# Altium footprint library ARDUINO_NANO.PcbLib: 1 footprints
Each footprint in its own frame and in the unit in brackets; x right, y up, seen from the top. Pads: shape width x height; smd on the part's side, far side on the other; paste and mask are expansions set on the pad; w line width, h text height; cw(c..) or ccw(c..) is an arc to the next point about the centre after c.
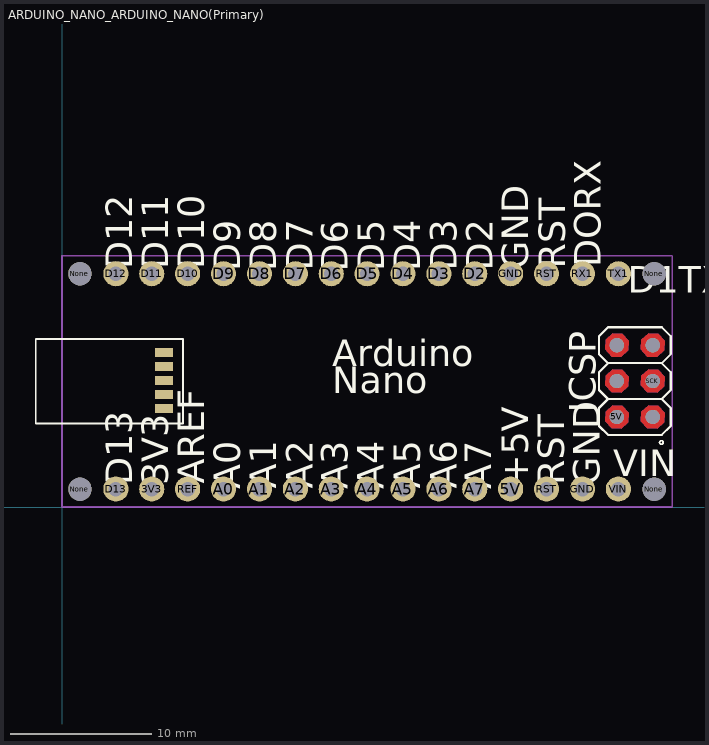
[diagram p0: the footprint, top view; thin cyan lines are the x and y axes]

## ARDUINO_NANO_ARDUINO_NANO(Primary) [mil]
pads (45):
  round 70 hole 40: 3V3(250,50) 5V(1250,50) A0(450,50) A1(550,50) A2(650,50) A3(750,50) A4(850,50) A5(950,50) A6(1050,50) A7(1150,50) D2(1150,650) D3(1050,650) D4(950,650) D5(850,650) D6(750,650) D7(650,650) D8(550,650) D9(450,650) D10(350,650) D11(250,650) D12(150,650) D13(150,50) GND(1250,650) GND(1450,50) REF(350,50) RST(1350,50) RST(1350,650) RX1(1450,650) TX1(1550,650) VIN(1550,50)
  round 40 hole 40: 5V(1546,251) GND_(1546,451) MISO(1646,251) MOSI(1546,351) RESET(1646,451) SCK(1646,351)
  round 65 hole 65 unplated: None(50,50) None(50,650) None(1650,50) None(1650,650)
  rect 50x25 smd: ""(284,274) ""(284,314) ""(284,352) ""(284,392) ""(284,431)
Top Layer:
  region: 1613.11,239.03 1631.21,219.28 1657.97,218.11 1677.72,236.21 1678.89,262.97 1660.79,282.72 1634.03,283.89 1614.28,265.79
  region: 1513.11,239.03 1531.21,219.28 1557.97,218.11 1577.72,236.21 1578.89,262.97 1560.79,282.72 1534.03,283.89 1514.28,265.79
  region: 1613.11,339.03 1631.21,319.28 1657.97,318.11 1677.72,336.21 1678.89,362.97 1660.79,382.72 1634.03,383.89 1614.28,365.79
  region: 1513.11,339.03 1531.21,319.28 1557.97,318.11 1577.72,336.21 1578.89,362.97 1560.79,382.72 1534.03,383.89 1514.28,365.79
  region: 1613.11,439.03 1631.21,419.28 1657.97,418.11 1677.72,436.21 1678.89,462.97 1660.79,482.72 1634.03,483.89 1614.28,465.79
  region: 1513.11,439.03 1531.21,419.28 1557.97,418.11 1577.72,436.21 1578.89,462.97 1560.79,482.72 1534.03,483.89 1514.28,465.79
Bottom Layer:
  region: 1613.11,239.03 1631.21,219.28 1657.97,218.11 1677.72,236.21 1678.89,262.97 1660.79,282.72 1634.03,283.89 1614.28,265.79
  region: 1513.11,239.03 1531.21,219.28 1557.97,218.11 1577.72,236.21 1578.89,262.97 1560.79,282.72 1534.03,283.89 1514.28,265.79
  region: 1613.11,339.03 1631.21,319.28 1657.97,318.11 1677.72,336.21 1678.89,362.97 1660.79,382.72 1634.03,383.89 1614.28,365.79
  region: 1513.11,339.03 1531.21,319.28 1557.97,318.11 1577.72,336.21 1578.89,362.97 1560.79,382.72 1534.03,383.89 1514.28,365.79
  region: 1613.11,439.03 1631.21,419.28 1657.97,418.11 1677.72,436.21 1678.89,462.97 1660.79,482.72 1634.03,483.89 1614.28,465.79
  region: 1513.11,439.03 1531.21,419.28 1557.97,418.11 1577.72,436.21 1578.89,462.97 1560.79,482.72 1534.03,483.89 1514.28,465.79
Top Overlay:
  circle w5: c1670,180 r5
  lines w5: -73,233 -73,468 337,468 337,233 -73,233
  lines w6: 1521,301 1671,301 ; 1521,301 1496,276 1496,226 1521,201 1671,201 1696,226 1696,276 1671,301 ; 1521,301 1496,326 1496,376 1521,401 ; 1521,401 1671,401 ; 1521,401 1496,426 1496,476 1521,501 1671,501 1696,476 1696,426 1671,401 ; 1671,301 1696,326 1696,376 1671,401
  text "D1TX" at 1575.57,597.31 h73.82
  text "VIN" at 1535.77,85.52 h73.82
  text "D13" at 195.33,60.27 h73.82
  text "3V3" at 295.8,60.35 h73.82
  text "AREF" at 395.88,65.32 h73.82
  text "A7" at 1196.45,50.23 h73.82
  text "A6" at 1099.92,50.43 h73.82
  text "A5" at 997.95,50.34 h73.82
  text "A4" at 896.62,50.27 h73.82
  text "A3" at 796.75,50.29 h73.82
  text "A2" at 697.9,50.41 h73.82
  text "A1" at 597.17,50.38 h73.82
  text "A0" at 496.02,50.28 h73.82
  text "+5V" at 1298.7,60.36 h73.82
  text "RST" at 1399.45,60.38 h73.82
  text "GND" at 1498.13,60.3 h73.82
  text "D12" at 195.89,663.2 h73.82
  text "D11" at 296.04,662.52 h73.82
  text "D10" at 396.42,662.57 h73.82
  text "D9" at 496.59,657.29 h73.82
  text "D8" at 596.83,657.2 h73.82
  text "D7" at 698.06,658.09 h73.82
  text "D6" at 796.06,656.04 h73.82
  text "D5" at 897.3,656.86 h73.82
  text "D4" at 998.13,657.24 h73.82
  text "D3" at 1099.72,658.03 h73.82
  text "D2" at 1199.91,657.89 h73.82
  text "GND" at 1298.33,661.88 h73.82
  text "RST" at 1401.57,663.31 h73.82
  text "DORX" at 1500.37,667.58 h73.82
  text "Nano" at 753.57,316.71 h73.82
  text "Arduino" at 752.85,391.67 h73.82
  text "ICSP" at 1486.69,263.2 h73.82
Mechanical 1:
  region: 1040.83,660 1060,660 1060,640.52 1040.83,640.52
  region: 1141.67,660 1160,660 1160,640.93 1141.67,640.93
  region: 1243.65,660 1260,660 1260,641.89 1243.65,641.89
  region: 1345.07,660 1360,660 1360,642.43 1345.07,642.43
  region: 1442.91,660 1460,660 1460,641.3 1442.91,641.3
  region: 1541.54,660 1560,660 1560,640.64 1541.54,640.64
  region: 140.6,660 160,660 160,642.72 140.6,642.72
  region: 240.58,660 260,660 260,641.56 240.58,641.56
  region: 340.87,660 360,660 360,641.63 340.87,641.63
  region: 440.58,660 460,660 460,640.85 440.58,640.85
  region: 542.53,660 560,660 560,642.99 542.53,642.99
  region: 640.8,660 660,660 660,640.8 640.8,640.8
  region: 741.37,660 760,660 760,641.18 741.37,641.18
  region: 842.95,660 860,660 860,642.25 842.95,642.25
  region: 941.67,660 960,660 960,641.14 941.67,641.14
  region: 1043.8,60 1060,60 1060,40.15 1043.8,40.15
  region: 1143.39,60 1160,60 1160,40.12 1143.39,40.12
  region: 1245.19,60 1260,60 1260,40.17 1245.19,40.17
  region: 1343.38,60 1360,60 1360,40.1 1343.38,40.1
  region: 1444.78,60 1460,60 1460,40.13 1444.78,40.13
  region: 1542.36,60 1560,60 1560,40.06 1542.36,40.06
  region: 140.53,60 160,60 160,40.15 140.53,40.15
  region: 240.48,60 260,60 260,40.08 240.48,40.08
  region: 341.26,60 360,60 360,40.15 341.26,40.15
  region: 441.52,60 460,60 460,40.14 441.52,40.14
  region: 541.9,60 560,60 560,40.14 541.9,40.14
  region: 642.48,60 660,60 660,40.16 642.48,40.16
  region: 743.21,60 760,60 760,40.17 743.21,40.17
  region: 841.46,60 860,60 860,40.07 841.46,40.07
  region: 943.17,60 960,60 960,40.13 943.17,40.13
  lines w5: 0,0 1700,0 1700,700 0,700 0,0
Multi-Layer:
  region: 1613.11,239.03 1631.21,219.28 1657.97,218.11 1677.72,236.21 1678.89,262.97 1660.79,282.72 1634.03,283.89 1614.28,265.79
  region: 1513.11,239.03 1531.21,219.28 1557.97,218.11 1577.72,236.21 1578.89,262.97 1560.79,282.72 1534.03,283.89 1514.28,265.79
  region: 1613.11,339.03 1631.21,319.28 1657.97,318.11 1677.72,336.21 1678.89,362.97 1660.79,382.72 1634.03,383.89 1614.28,365.79
  region: 1513.11,339.03 1531.21,319.28 1557.97,318.11 1577.72,336.21 1578.89,362.97 1560.79,382.72 1534.03,383.89 1514.28,365.79
  region: 1613.11,439.03 1631.21,419.28 1657.97,418.11 1677.72,436.21 1678.89,462.97 1660.79,482.72 1634.03,483.89 1614.28,465.79
  region: 1513.11,439.03 1531.21,419.28 1557.97,418.11 1577.72,436.21 1578.89,462.97 1560.79,482.72 1534.03,483.89 1514.28,465.79